# Altium schematic symbol library H2H Main Board.SCHLIB: 29 symbols
Pins are listed as number, name and electrical type; pins without a type are passive.

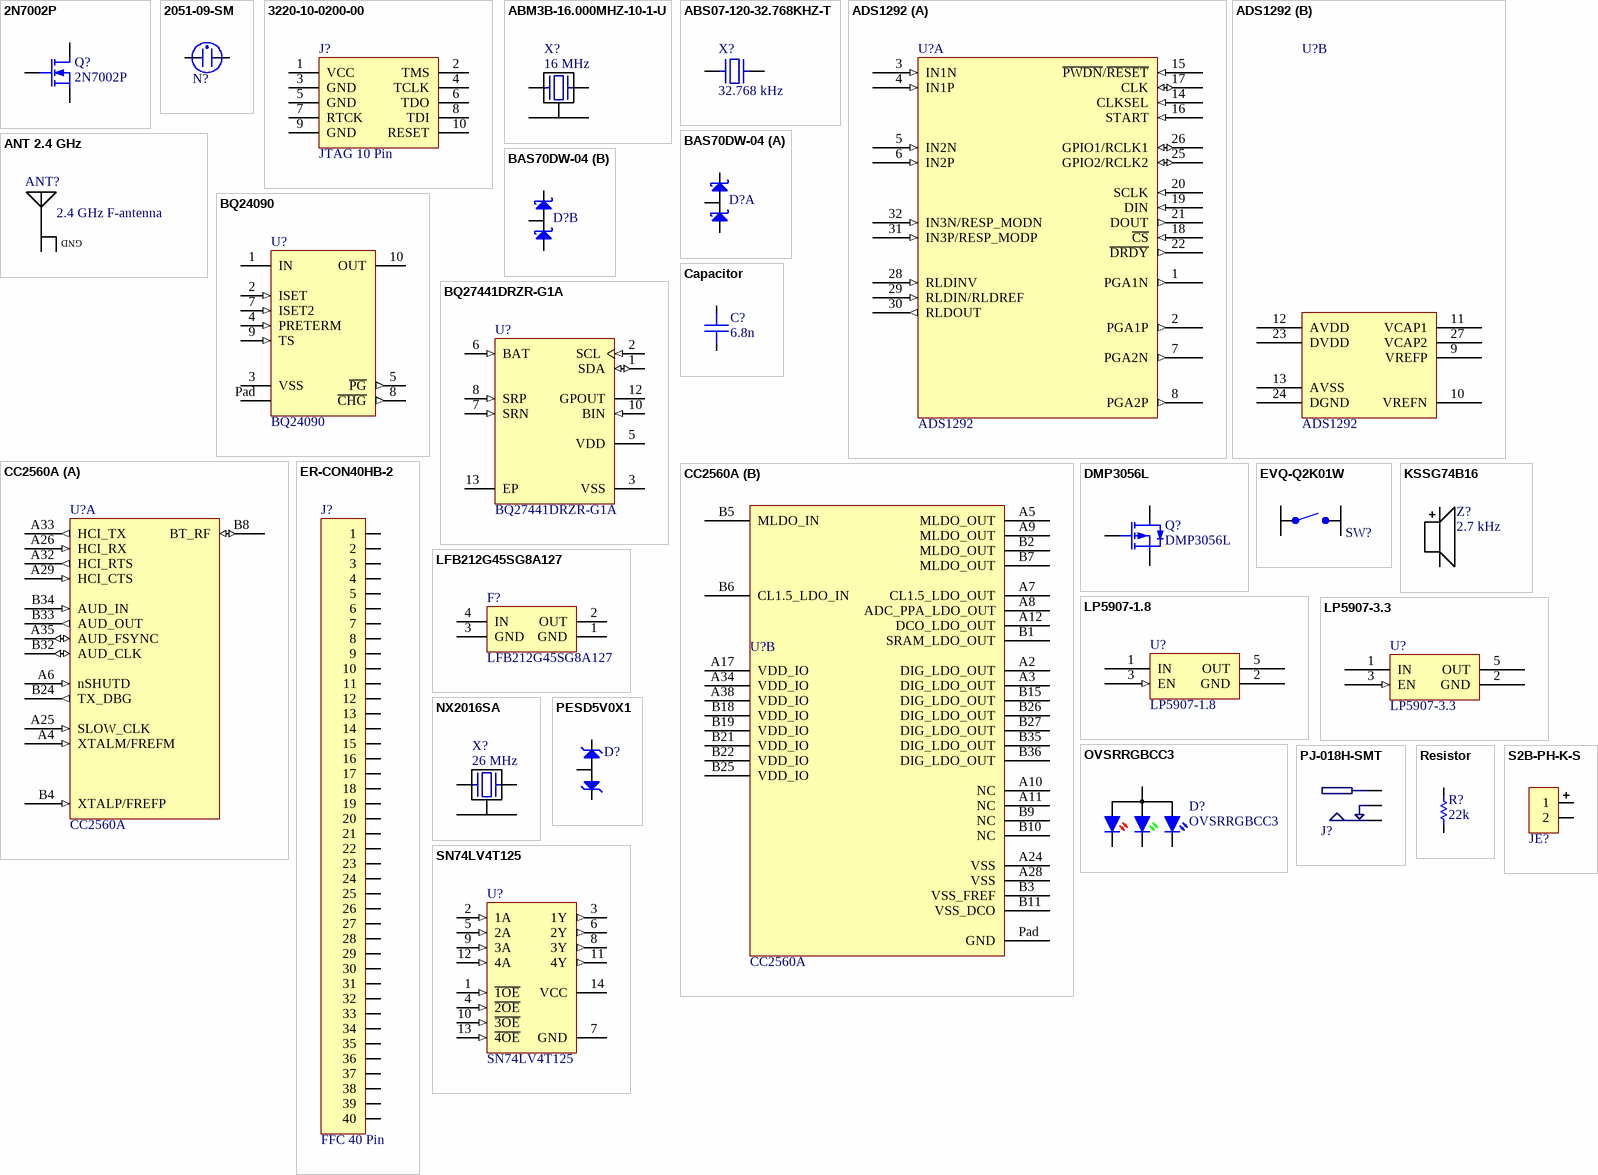
[diagram p0: symbols 2N7002P to SN74LV4T125]

## 2N7002P
designator Q?
Transistor - MOSFET, N-Channel, 60V, 300mA; Supplier 1: Digi-Key; Supplier Part Number 1: 568-5818-1-ND
footprint 2N7002P (Transistor - MOSFET, N-Channel, 60V, 300mA)
pins: 1 G, 2 S, 3 D

## 2051-09-SM
designator N?, comment GDT  (value not drawn)
TVS - Gas Discharge Tube; DC Sparkover: 90 V; Impulse Sparkover (1000V/us): <600 V; Glow Voltage: 70 V; Arc Voltage: 10 V; Glow-Arc Transition Current: <1 A; Impulse Sparkover (100V/us): <500 V; Supplier 1: Digi-Key; Supplier Part Number 1: 2051-09-SM-RPLFCT-ND
footprint 2051-09-SM (TVS - Gas Discharge Tube)
pins: 1, 2

## 3220-10-0200-00
designator J?, comment JTAG 10 Pin
Conn - JTAG, Header, Male, Right Angle, 10 Pin, 1.27mm Pitch, ARM Standard; Supplier 1: Digi-Key; Supplier Part Number 1: 1175-1628-ND
footprint 3220-10-0200-00 (Conn - JTAG, Header, Male, Right Angle, 10 Pin, 1.27mm Pitch, ARM Standard)
pins: 1 VCC, 2 TMS, 3 GND, 4 TCLK, 5 GND, 6 TDO, 7 RTCK, 8 TDI, 9 GND, 10 RESET

## ABM3B-16.000MHZ-10-1-U
designator X?  Frequency: 16 MHz  (hidden comment: ABM3B-16.000MHZ-10-1-U)
Crystal - 16 MHz; Load Capacitance: 10 pF; ESR: 50 m; Supplier 1: Digi-Key; Supplier Part Number 1: 300-8206-1-ND
footprint ABM3B-16.000MHZ-10-1-U (Crystal 16 MHz)
pins: 1, 2, 3, 4

## ABS07-120-32.768KHZ-T
designator X?  Frequency: 32.768 kHz  (hidden comment: ABS07-120-32.768KHZ-T)
Crystal - 32.768 kHz; Load Capacitance: 6 pF; Supplier 1: Digi-Key; Supplier Part Number 1: 535-11937-1-ND
footprint ABS07-120-32.768KHZ-T (DFN, 2-Leads, Body 1,50x3,20mm, Pitch 2,45mm, IPC Medium Density)
pins: 1, 2

## ADS1292
designator U?
IC - Analog Front End - Medical; Supplier 1: Digi-Key; Supplier Part Number 1: 296-30137-5-ND
footprint ADS129x (TSQFP, 32-Leads, Body 5,00x5,00mm, Pitch 0,50mm, IPC Medium Density)
part A pins: 1 PGA1N (out), 2 PGA1P (out), 3 IN1N (in), 4 IN1P (in), 5 IN2N (in), 6 IN2P (in), 7 PGA2N (out), 8 PGA2P (out), 14 CLKSEL (in), 15 ~{PWDN}/~{RESET} (in), 16 START (in), 17 CLK (io), 18 ~{CS} (in), 19 DIN (in), 20 SCLK (in), 21 DOUT (out), 22 ~{DRDY} (out), 25 GPIO2/RCLK2 (io), 26 GPIO1/RCLK1 (io), 28 RLDINV (in), 29 RLDIN/RLDREF (in), 30 RLDOUT (out), 31 IN3P/RESP_MODP (in), 32 IN3N/RESP_MODN (in)
part B pins: 9 VREFP, 10 VREFN, 11 VCAP1, 12 AVDD (power), 13 AVSS (power), 23 DVDD (power), 24 DGND (power), 27 VCAP2

## ANT 2.4 GHz
designator ANT?, comment 2.4 GHz F-antenna  (net tie, no BOM)
Antenna - Inverted F 2.4 GHz
footprint Antenna Inverted F 2.4 GHz (Antenna - Inverted F 2.4 GHz)
pins: 1 IN, 2 GND

## BAS70DW-04
designator D?  (value not drawn)
TVS - Dual Schottky Rail-to-rail Protection; Supplier 1: Digi-Key; Supplier Part Number 1: BAS70DW-04FDICT-ND
footprint BAS70DW-04 (SOT23, 6-Leads, Body 2,00x2,10mm, Pitch 0,65mm, IPC Medium Density)
part A pins: 1 A1, 2 K1, 6 AK1
part B pins: 3 AK2, 4 A2, 5 K2

## BQ24090
designator U?
IC - Battery Charger, Single Cell Li-Ion/LiPo, 1A; Supplier 1: Digi-Key; Supplier Part Number 1: 296-38875-1-ND
footprint BQ24090 (TSSOP, 10-Leads, Body 3,00x3,00mm, Pitch 0,50mm, Thermal Pad 1,88x1,57mm, IPC Medium Density)
pins: 1 IN (power), 2 ISET (in), 3 VSS (power), 4 PRETERM (in), 5 ~{PG} (out), 7 ISET2 (in), 8 ~{CHG} (out), 9 TS (in), 10 OUT (power), Pad Thermal

## BQ27441DRZR-G1A
designator U?
IC - Fuel Gauge, System-Side Impedance Track; PartNumber: BQ27410DRZR-G1A; Manufacturer: Texas Instruments; Eco-Plan: Green (RoHS & no Sb/Br); Lead Acid: N; Li-Ion: Y; SubFamily: Battery Fuel Gauge; DatasheetVersion: SLUSAF4; PackageVersion: revB, Apr-2006; PackageReference: DRZ12-1950X2450TP; PackageDescription: 12-Pin Plastic Small Outline No-Lead, 4 x 2.5 x 1 mm Body, 0.4 mm Pitch, Exposed Pad, Pb-Free; Li-Polymer: Y; NiCd: N; NiMH: N; Over Voltage Protection: N; Mounting Technology: Surface Mount; ComponentLink1Description: Datasheet; ComponentLink1URL: http://www.ti.com/general/docs/lit/getliterature.tsp?genericPartNumber=BQ27410-G1&fileType=pdf; Supplier 1: Digi-Key; Supplier Part Number 1: 296-39941-1-ND
footprint BQ27441DRZx-G1A (SON, 12-Leads, Body 4x2.5mm, Pitch 0.4mm, Thermal Pad 1.95x2.45mm, TI Recommended)
pins: 1 SDA (io) "Slave I2C serial communications data line for communication with system (Master). Open-drain I/O. Use with 10kohm pull-up resistor (typical).", 2 SCL (in) "Slave I2C serial communications clock input line for communication with system (Master). Use with 10kohm pull-up resistor (typical).", 3 VSS (power) "Device ground", 5 VDD (power) "Processor power input. Decouple with minimum 0.1µF ceramic capacitor.", 6 BAT (in) "Cell-voltage measurement input. ADC input. Recommend 4.8V maximum for conversion accuracy.", 7 SRN (in) "Analog input pin connected to the internal coulomb counter where SRN is nearest the Vss connection.Connect to 5-mohm to 20-mohm sense resistor.", 8 SRP (in) "Analog input pin connected to the internal coulomb counter where SRP is nearest the PACK- connection.Connect to 5-mohm to 20-mohm sense resistor.", 10 BIN (in) "Battery-insertion detection input. A logic high to low transition is detected as a battery insertion event.", 12 GPOUT (oc) "General Purpose open-drain output. May be configured as Battery Low indicator or perform SOC interrupt (SOC_INT) function.", 13 EP "Exposed thermal pad"

## Capacitor
designator C?, comment 6.8n
Capacitor; Value: 6.8n; Rated Voltage: *
footprint C0603 (Chip Capacitor, 2-Leads, Body 1,55x0,85mm, IPC Medium Density)
footprint C0805 (Chip Capacitor, 2-Leads, Body 2,00x1,25mm, IPC Medium Density)
footprint C1206 (Chip Capacitor, 2-Leads, Body 3,20x1,60mm, IPC Medium Density)
footprint C0402 (Chip Capacitor, 2-Leads, Body 1,00x0,50mm, IPC Medium Density)
pins: 1, 2

## CC2560A
designator U?
IC - Bluetooth 4.0 controller (BR/EDR); Supplier 1: Farnell; Supplier Part Number 1: 2334559
footprint CC256x (Double Row QFN, 76-Leads, Body 8,00x8,00mm, Pitch 0,60mm, Thermal Pad 3,40x3,40mm, IPC Low Density)
part A pins: A4 XTALM/FREFM (in), A6 nSHUTD (in), A25 SLOW_CLK (in), A26 HCI_RX (in), A29 HCI_CTS (in), A32 HCI_RTS (out), A33 HCI_TX (out), A35 AUD_FSYNC (io), B4 XTALP/FREFP (in), B8 BT_RF (io), B24 TX_DBG (out), B32 AUD_CLK (io), B33 AUD_OUT (out), B34 AUD_IN (in)
part B pins: A2 DIG_LDO_OUT (power), A3 DIG_LDO_OUT (power), A5 MLDO_OUT (power), A7 CL1.5_LDO_OUT (power), A8 ADC_PPA_LDO_OUT (power), A9 MLDO_OUT (power), A10 NC, A11 NC, A12 DCO_LDO_OUT (power), A17 VDD_IO (power), A24 VSS (power), A28 VSS (power), A34 VDD_IO (power), A38 VDD_IO (power), B1 SRAM_LDO_OUT (power), B2 MLDO_OUT (power), B3 VSS_FREF (power), B5 MLDO_IN (power), B6 CL1.5_LDO_IN (power), B7 MLDO_OUT (power), B9 NC, B10 NC, B11 VSS_DCO (power), B15 DIG_LDO_OUT (power), B18 VDD_IO (power), B19 VDD_IO (power), B21 VDD_IO (power), B22 VDD_IO (power), B25 VDD_IO (power), B26 DIG_LDO_OUT (power), B27 DIG_LDO_OUT (power), B35 DIG_LDO_OUT (power), B36 DIG_LDO_OUT (power), Pad GND (power)

## DMP3056L
designator Q?
Transistor - MOSFET, P-Channel, 30V, 4.3A; RDSon @ VGS =-4.5V: 50 m; Supplier 1: Digi-Key; Supplier Part Number 1: DMP3056L-7DICT-ND
footprint DMP3056L (SOT23, 3-Leads, Body 2,92x2,50mm, Pitch 0,95mm, IPC Medium Density)
pins: 1 G, 2 S, 3 D

## ER-CON40HB-2
designator J?, comment FFC 40 Pin
Conn - FFC/FPC, 40 Pin, 1.0mm Pitch, ZIF
footprint ER-CON40HB-2 (Conn - FFC/FPC, 40 Pin, 1.0mm Pitch, ZIF)
pins: 1, 2, 3, 4, 5, 6, 7, 8, 9, 10, 11, 12, 13, 14, 15, 16, 17, 18, 19, 20, 21, 22, 23, 24, 25, 26, 27, 28, 29, 30, 31, 32, 33, 34, 35, 36, 37, 38, 39, 40

## EVQ-Q2K01W
designator SW?  (value not drawn)
Switch - Tactile, Off-Mom, SPST; Supplier 1: Digi-Key; Supplier Part Number 1: P12941SCT-ND
footprint EVQ-Q2K01W (Switch - Tactile, Off-Mom, SPST)
pins: 1 A1, 2 A2, 3 B2, 4 B1

## KSSG74B16
designator Z?, comment 2.7 kHz
Transductor - Buzzer 2.7 kHz; Supplier 1: Farnell; Supplier Part Number 1: 2215090; Resonant frequency: 2.7 kHz
footprint KSSG74B16 (Transductor - Buzzer 2.7 kHz)
pins: 1 +, 2 -

## LFB212G45SG8A127
designator F?
Filter - RF 2.4 GHz; Supplier 1: Digi-Key; Supplier Part Number 1: 490-5021-1-ND
footprint LFB212G45SG8A127 (Filter - RF 2.4 GHz)
pins: 1 GND (power), 2 OUT, 3 GND (power), 4 IN (power)

## LP5907-1.8
designator U?
Voltage Regulator - Linear; Supplier 1: Digi-Key; Supplier Part Number 1: 296-41463-1-ND
footprint LP5907 (SOT23, 5-Leads, Body 2,90x2,80mm, Pitch 0,95mm, IPC Medium Density)
pins: 1 IN (power), 2 GND (power), 3 EN (in), 5 OUT (power)

## LP5907-3.3
designator U?
Voltage Regulator - Linear; Supplier 1: Digi-Key; Supplier Part Number 1: 296-38557-1-ND
footprint LP5907 (SOT23, 5-Leads, Body 2,90x2,80mm, Pitch 0,95mm, IPC Medium Density)
pins: 1 IN (power), 2 GND (power), 3 EN (in), 5 OUT (power)

## NX2016SA
designator X?  Frequency: 26 MHz  (hidden comment: NX2016SA)
Crystal - 26 MHz; Supplier 1: Digi-Key; Supplier Part Number 1: 644-1220-1-ND
footprint NX2016SA (Crystal - 26 MHz)
pins: 1, 2, 3, 4

## OVSRRGBCC3
designator D?
LED - RGB, Top/Side-emmiting; Supplier 1: Digi-Key; Supplier Part Number 1: 365-1981-1-ND
footprint OVSRRGBCC3/SIDE (LED - RGB, Side-emmiting)
pins: 1 K_R, 2 K_G, 3 K_B, 4 A

## PESD5V0X1
designator D?  (value not drawn)
TVS - Bidirectional Zener Diode; Capacitance: 1 pF; Supplier 1: Digi-Key; Supplier Part Number 1: 568-4676-1-ND
footprint PESD5V0X1BT (SOT23, 3-Leads, Body 2,90x2,30mm, Pitch 0,95mm, IPC Medium Density)
pins: 1 K1, 2 K2, 3 A

## PJ-018H-SMT
designator J?  (value not drawn)
Conn - DC Power Plug - 4.0 mmOD / 1.7 mmID; Inner Diameter: 1.7 mm; Outer Diameter: 4.0 mm; DC Conn Standard: EIAJ-02; Supplier 1: Digi-Key; Supplier Part Number 1: CP-018HPJCT-ND
footprint PJ-018H-SMT (DC Power Plug - 4.0 mmOD / 1.7 mmID)
pins: 1, 2, 3

## Resistor
designator R?, comment 22k
Resistor; Value: 22k; Power: *
footprint R0603 (Chip Resistor, 2-Leads, Body 1,55x0,85mm, IPC Medium Density)
footprint R0805 (Chip Resistor, 2-Leads, Body 2,00x1,25mm, IPC Medium Density)
footprint R1206 (Chip Resistor, 2-Leads, Body 3,20x1,60mm, IPC Medium Density)
footprint R2512 (Chip Resistor, 2-Leads, Body 6,40x3,20mm, IPC Medium Density)
footprint R0402 (Chip Resistor, 2-Leads, Body 1,00x0,50mm, IPC Medium Density)
pins: 1, 2

## S2B-PH-K-S
designator JE?, comment JST PH 2 Pin  (value not drawn)
Conn - Battery, Male, 2 Pin, PCB, Right Angle; Supplier 1: Digi-Key; Supplier Part Number 1: 455-1719-ND
footprint S2B-PH-K-S (Conn - Battery, Male, 2 Pin, PCB, Right Angle)
pins: 1, 2

## SN74LV4T125
designator U?
IC - Voltage Level Translator; Supplier 1: Digi-Key; Supplier Part Number 1: 296-40546-1-ND
footprint SN74LV4T125 (QFN, 14-Leads, Body 3,50x3,50mm, Pitch 0,50mm/1,50mm, Thermal Pad 2,05x2,05mm, IPC Medium Density)
pins: 1 ~{1OE} (in), 2 1A (in), 3 1Y (out), 4 ~{2OE} (in), 5 2A (in), 6 2Y (out), 7 GND (power), 8 3Y (out), 9 3A (in), 10 ~{3OE} (in), 11 4Y (out), 12 4A (in), 13 ~{4OE} (in), 14 VCC (power)

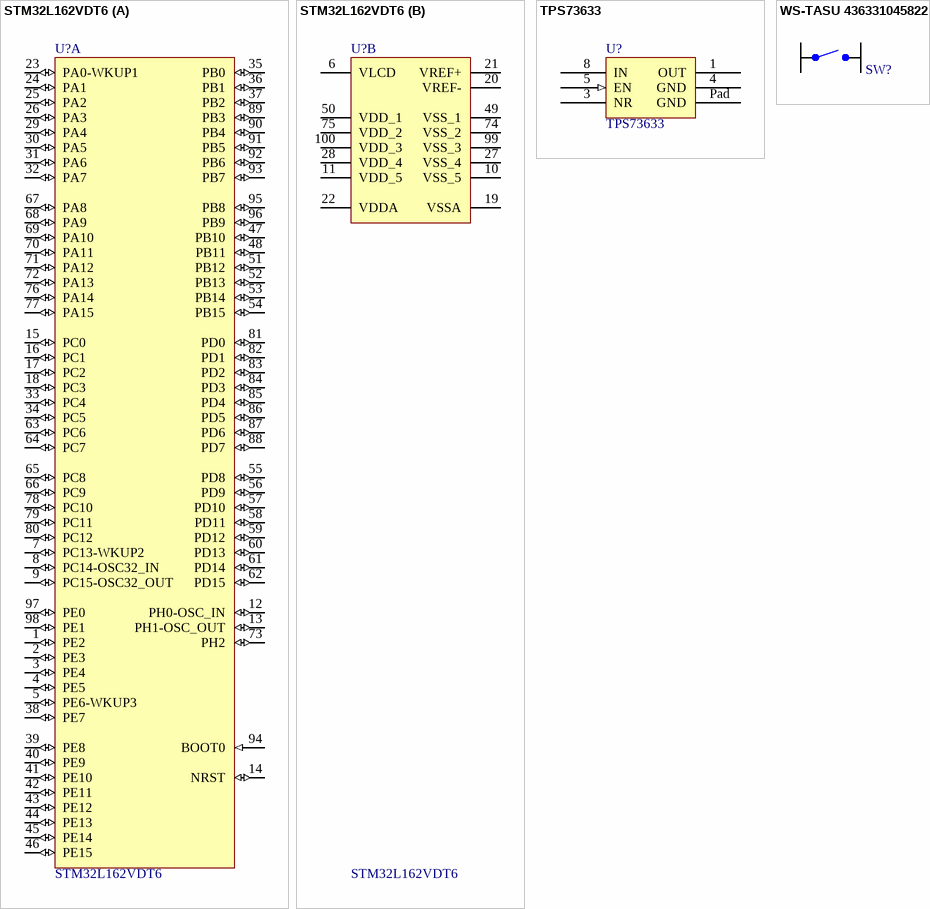
[diagram p1: symbols STM32L162VDT6 to WS-TASU 436331045822]

## STM32L162VDT6
designator U?
ARM Cortex-M3 32-bit MCU, 384 KB Flash, 48 KB Internal RAM, 83 I/Os, 100-pin LQFP, -40 to 85 degC, Tray; Manufacturer: STMicroelectronics; D/A Converter: 2x12-bit (2 Channel); Data E2PROM nom (B): 12288; Display controller: LCD 4x44/8x40; FLASH Size (Prog) (kB): 384; I/Os (High Current): 83; Integrated op-amps: 3; Internal RAM Size (kB): 48; Operating Frequency(F) (Processor speed) (MHz): 32; Supply Voltage(Vcc) min (V): 1.65; DatasheetVersion: Rev. 4; PackageVersion: Rev. 1, 06/2013; PackageReference: LQFP100; PackageDescription: 100-Pin Low Profile Quad Flat Package, 14 x 14 mm Body, 0.5 mm Pitch; Core: ARM Cortex-M3; Packing: Tray; Mounting Technology: Surface Mount; PartNumber: STM32L162VDT6; ComponentLink1Description: Manufacturer URL; ComponentLink1URL: http://www.st.com/web/en/home.html; ComponentLink2Description: Datasheet; ComponentLink2URL: http://www.st.com/st-web-ui/static/active/en/resource/technical/document/datasheet/DM00039232.pdf; ComponentLink3Description: Package Specification; ComponentLink3URL: http://www.st.com/st-web-ui/static/active/en/resource/technical/document/data_brief/DM00071938.pdf; Supplier 1: Farnell; Supplier Part Number 1: 2333341
footprint STM-LQFP100_N (Thin QFP, 100-Leads, Body 14x14mm, Pitch 0.5mm, IPC Medium Density)
footprint STM-LQFP100_L (Thin QFP, 100-Leads, Body 14x14mm, Pitch 0.5mm, IPC High Density)
footprint STM-LQFP100_M (Thin QFP, 100-Leads, Body 14x14mm, Pitch 0.5mm, IPC Low Density)
footprint STM-LQFP100_V (Thin QFP, 100-Leads, Body 14x14mm, Pitch 0.5mm, ST Recommended)
part A pins: 1 PE2 (io) "PE2/TIM3_ETR/LCD_SEG38/FSMC_A23/TRACECLK", 2 PE3 (io) "PE3/TIM3_CH1/LCD_SEG39/FSMC_A19/TRACED0", 3 PE4 (io) "PE4/TIM3_CH2/FSMC_A20/TRACED1", 4 PE5 (io) "PE5/TIM9_CH1/FSMC_A21/TRACED2", 5 PE6-WKUP3 (io) "PE6-WKUP3/PE6/WKUP3/RTC_TAMP3/TIM9_CH2/TRACED3", 7 PC13-WKUP2 (io) "PC13-WKUP2/PC13/WKUP2/RTC_TAMP1/RTC_TS/RTC_OUT", 8 PC14-OSC32_IN (io) "PC14-OSC32_IN/PC14/OSC32_IN", 9 PC15-OSC32_OUT (io) "PC15-OSC32_OUT/PC15/OSC32_OUT", 12 PH0-OSC_IN (io) "PH0-OSC_IN/PH0/OSC_IN", 13 PH1-OSC_OUT (io) "PH1-OSC_OUT/PH1/OSC_OUT", 14 NRST (io), 15 PC0 (io) "PC0/LCD_SEG18/ADC_IN10/COMP1_INP", 16 PC1 (io) "PC1/LCD_SEG19/ADC_IN11/COMP1_INP/OPAMP3_VINP", 17 PC2 (io) "PC2/LCD_SEG20/ADC_IN12/COMP1_INP/OPAMP3_VINM", 18 PC3 (io) "PC3/LCD_SEG21/ADC_IN13/COMP1_INP/OPAMP3_VOUT", 23 PA0-WKUP1 (io) "PA0-WKUP1/PA0/WKUP1/RTC_TAMP2/TIM2_CH1_ETR/TIM5_CH1/USART2_CTS/ADC_IN0/COMP1_INP", 24 PA1 (io) "PA1/TIM2_CH2/TIM5_CH2/USART2_RTS/LCD_SEG0/ADC_IN1/COMP1_INP/OPAMP1_VINP", 25 PA2 (io) "PA2/TIM2_CH3/TIM5_CH3/TIM9_CH1/USART2_TX/LCD_SEG1/ADC_IN2/COMP1_INP/OPAMP1_VINM", 26 PA3 (io) "PA3/TIM2_CH4/TIM5_CH4/TIM9_CH2/USART2_RX/LCD_SEG2/ADC_IN3/COMP1_INP/OPAMP1_VOUT", 29 PA4 (io) "PA4/SPI1_NSS/SPI3_NSS/I2S3_WS/USART2_CK/ADC_IN4/DAC_OUT1/COMP1_INP", 30 PA5 (io) "PA5/TIM2_CH1_ETR/SPI1_SCK/ADC_IN5/DAC_OUT2/COMP1_INP", 31 PA6 (io) "PA6/TIM3_CH1/TIM10_CH1/SPI1_MISO/LCD_SEG3/ADC_IN6/COMP1_INP/OPAMP2_VINP", 32 PA7 (io) "PA7/TIM3_CH2/TIM11_CH1/SPI1_MOSI/LCD_SEG4/ADC_IN7/COMP1_INP/OPAMP2_VINM", 33 PC4 (io) "PC4/LCD_SEG22/ADC_IN14/COMP1_INP", 34 PC5 (io) "PC5/LCD_SEG23/ADC_IN15/COMP1_INP", 35 PB0 (io) "PB0/TIM3_CH3/LCD_SEG5/ADC_IN8/COMP1_INP/VREF_OUT/OPAMP2_VOUT", 36 PB1 (io) "PB1/TIM3_CH4/LCD_SEG6/ADC_IN9/COMP1_INP/VREF_OUT", 37 PB2 (io) "PB2/BOOT1/COMP1_INP", 38 PE7 (io) "PE7/FSMC_D4/ADC_IN22/COMP1_INP", 39 PE8 (io) "PE8/FSMC_D5/ADC_IN23/COMP1_INP", 40 PE9 (io) "PE9/TIM2_CH1_ETR/FSMC_D6/ADC_IN24/COMP1_INP", 41 PE10 (io) "PE10/TIM2_CH2/FSMC_D7/ADC_IN25/COMP1_INP", 42 PE11 (io) "PE11/TIM2_CH3/FSMC_D8", 43 PE12 (io) "PE12/TIM2_CH4/SPI1_NSS/FSMC_D9", 44 PE13 (io) "PE13/SPI1_SCK/FSMC_D10", 45 PE14 (io) "PE14/SPI1_MISO/FSMC_D11", 46 PE15 (io) "PE15/SPI1_MOSI/FSMC_D12", 47 PB10 (io) "PB10/TIM2_CH3/I2C2_SCL/USART3_TX/LCD_SEG10", 48 PB11 (io) "PB11/TIM2_CH4/I2C2_SDA/USART3_RX/LCD_SEG11", 51 PB12 (io) "PB12/TIM10_CH1/I2C2_SMBA/SPI2_NSS/I2S2_WS/USART3_CK/LCD_SEG12/ADC_IN18/COMP1_INP", 52 PB13 (io) "PB13/TIM9_CH1/SPI2_SCK/I2S2_CK/USART3_CTS/LCD_SEG13/ADC_IN19/COMP1_INP", 53 PB14 (io) "PB14/TIM9_CH2/SPI2_MISO/USART3_RTS/LCD_SEG14/ADC_IN20/COMP1_INP", 54 PB15 (io) "PB15/TIM11_CH1/SPI2_MOSI/I2S2_SD/LCD_SEG15/ADC_IN21/COMP1_INP/RTC_REFIN", 55 PD8 (io) "PD8/USART3_TX/LCD_SEG28/FSMC_D13", 56 PD9 (io) "PD9/USART3_RX/LCD_SEG29/FSMC_D14", 57 PD10 (io) "PD10/USART3_CK/LCD_SEG30/FSMC_D15", 58 PD11 (io) "PD11/USART3_CTS/LCD_SEG31/FSMC_A16", 59 PD12 (io) "PD12/TIM4_CH1/USART3_RTS/LCD_SEG32/FSMC_A17", 60 PD13 (io) "PD13/TIM4_CH2/LCD_SEG33/FSMC_A18", 61 PD14 (io) "PD14/TIM4_CH3/LCD_SEG34/FSMC_D0", 62 PD15 (io) "PD15/TIM4_CH4/LCD_SEG35/FSMC_D1", 63 PC6 (io) "PC6/TIM3_CH1/I2S2_MCK/LCD_SEG24/SDIO_D6", 64 PC7 (io) "PC7/TIM3_CH2/I2S3_MCK/LCD_SEG25/SDIO_D7", 65 PC8 (io) "PC8/TIM3_CH3/LCD_SEG26/SDIO_D0", 66 PC9 (io) "PC9/TIM3_CH4/LCD_SEG27/SDIO_D1", 67 PA8 (io) "PA8/USART1_CK/MCO/LCD_COM0", 68 PA9 (io) "PA9/USART1_TX/LCD_COM1", 69 PA10 (io) "PA10/USART1_RX/LCD_COM2", 70 PA11 (io) "PA11/USART1_CTS/USB_DM/SPI1_MISO", 71 PA12 (io) "PA12/USART1_RTS/USB_DP/SPI1_MOSI", 72 PA13 (io) "PA13/JTMS-SWDAT", 73 PH2 (io) "PH2/FSMC_A22", 76 PA14 (io) "PA14/JTCK-SWCLK", 77 PA15 (io) "PA15/JTDI/TIM2_CH1_ETR/SPI1_NSS/SPI3_NSS/I2S3_WS/LCD_SEG17", 78 PC10 (io) "PC10/SPI3_SCK/I2S3_CK/USART3_TX/UART4_TX/LCD_SEG28/LCD_SEG40/LCD_COM4/SDIO_D2", 79 PC11 (io) "PC11/SPI3_MISO/USART3_RX/UART4_RX/LCD_SEG29/LCD_SEG41/LCD_COM5/SDIO_D3", 80 PC12 (io) "PC12/SPI3_MOSI/I2S3_SD/USART3_CK/UART5_TX/LCD_SEG30/LCD_SEG42/LCD_COM6/SDIO_CK", 81 PD0 (io) "PD0/TIM9_CH1/SPI2_NSS/I2S2_WS/FSMC_D2", 82 PD1 (io) "PD1/SPI2_SCK/I2S2_CK/FSMC_D3", 83 PD2 (io) "PD2/TIM3_ETR/UART5_RX/LCD_SEG31/LCD_SEG43/LCD_COM7/SDIO_CMD", 84 PD3 (io) "PD3/SPI2_MISO/USART2_CTS/FSMC_CLK", 85 PD4 (io) "PD4/SPI2_MOSI/I2S2_SD/USART2_RTS/FSMC_NOE", 86 PD5 (io) "PD5/USART2_TX/FSMC_NWE", 87 PD6 (io) "PD6/USART2_RX/FSMC_NWAIT", 88 PD7 (io) "PD7/TIM9_CH2/USART2_CK/FSMC_NE1", 89 PB3 (io) "PB3/JTDO/TIM2_CH2/SPI1_SCK/SPI3_SCK/I2S3_CK/LCD_SEG7/COMP2_INM", 90 PB4 (io) "PB4/NJTRST/TIM3_CH1/SPI1_MISO/SPI3_MISO/LCD_SEG8/COMP2_INP", 91 PB5 (io) "PB5/TIM3_CH2/I2C1_SMBA/SPI1_MOSI/SPI3_MOSI/I2S3_SD/LCD_SEG9/COMP2_INP", 92 PB6 (io) "PB6/TIM4_CH1/I2C1_SCL/USART1_TX/COMP2_INP", 93 PB7 (io) "PB7/TIM4_CH2/I2C1_SDA/USART1_RX/PVD_IN/FSMC_NADV/COMP2_INP", 94 BOOT0 (in), 95 PB8 (io) "PB8/TIM4_CH3/TIM10_CH1/I2C1_SCL/LCD_SEG16/SDIO_D4", 96 PB9 (io) "PB9/TIM4_CH4/TIM11_CH1/I2C1_SDA/LCD_COM3/SDIO_D5", 97 PE0 (io) "PE0/TIM4_ETR/TIM10_CH1/LCD_SEG36/FSMC_NBL0", 98 PE1 (io) "PE1/TIM11_CH1/LCD_SEG37/FSMC_NBL1"
part B pins: 6 VLCD (power), 10 VSS_5 (power), 11 VDD_5 (power), 19 VSSA (power), 20 VREF- (power), 21 VREF+ (power), 22 VDDA (power), 27 VSS_4 (power), 28 VDD_4 (power), 49 VSS_1 (power), 50 VDD_1 (power), 74 VSS_2 (power), 75 VDD_2 (power), 99 VSS_3 (power), 100 VDD_3 (power)

## TPS73633
designator U?
Voltage Regulator - Linear; Supplier 1: Digi-Key; Supplier Part Number 1: 296-17884-1-ND
footprint TPS73633 (PSON, 8-Leads, Body 3,00x3,00mm, Pitch 0,65mm, Thermal Pad 1,75x1,50mm, IPC Medium Density)
pins: 1 OUT (power), 3 NR, 4 GND (power), 5 EN (in), 8 IN (power), Pad GND (power)

## WS-TASU 436331045822
designator SW?  (value not drawn)
Switch - Tactile, Off-Mom, SPST, Side-Actuated; Supplier 1: Digi-Key; Supplier Part Number 1: 732-7059-1-ND
footprint WS-TASU 436331045822 (Switch - Tactile, Off-Mom, SPST, Side-Actuated)
pins: 1, 2, 3, 4